# Altium schematic symbol library logo.SchLib: 2 symbols
Pins are listed as number, name and electrical type; pins without a type are passive.

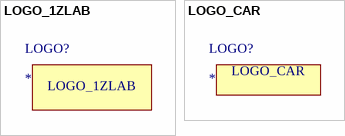
[diagram p0: symbols LOGO_1ZLAB to LOGO_CAR]

## LOGO_1ZLAB
designator LOGO?
footprint 1ZLAB_LOGO

## LOGO_CAR
designator LOGO?
footprint car_logo